# Altium footprint library Resistors.PcbLib: 79 footprints (part 5 of 5)
Each footprint in its own frame and in the unit in brackets; x right, y up, seen from the top. Pads: shape width x height; smd on the part's side, far side on the other; paste and mask are expansions set on the pad; w line width, h text height; cw(c..) or ccw(c..) is an arc to the next point about the centre after c.
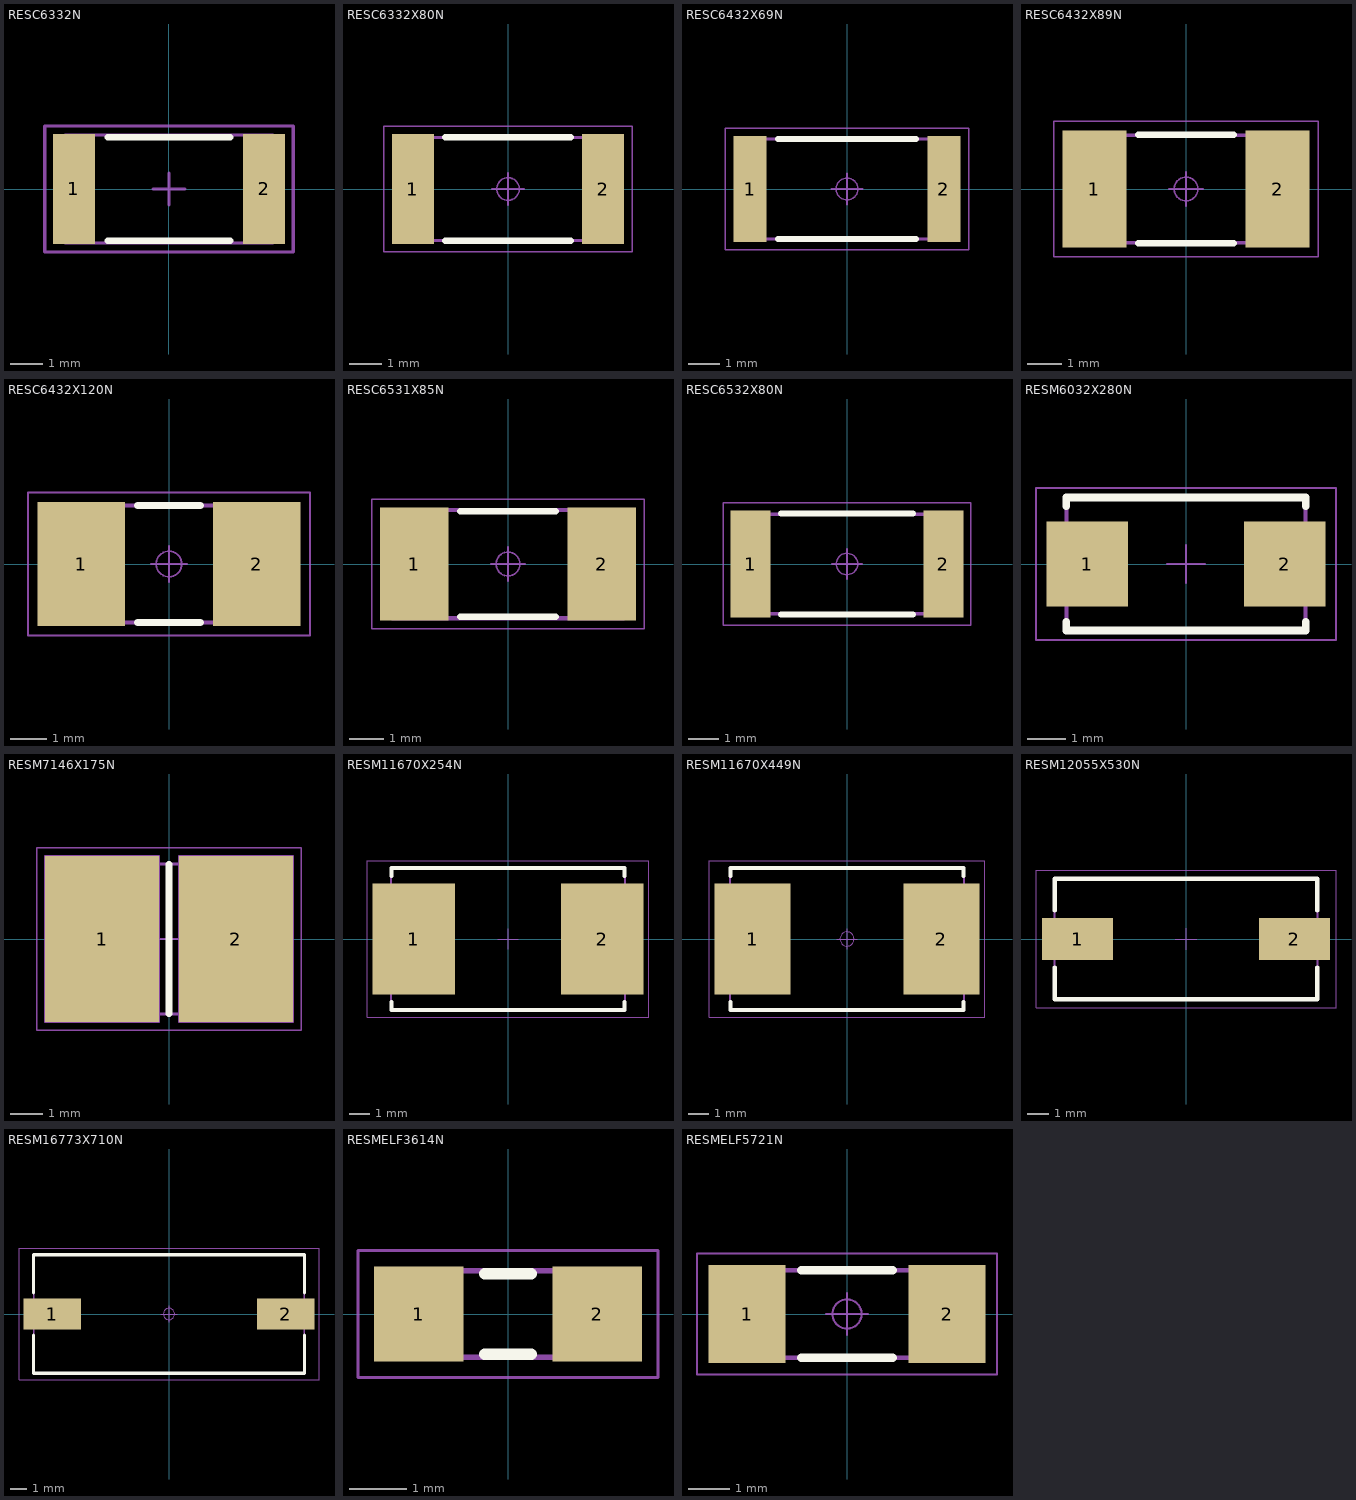
[diagram p4: the footprints below, top view; thin cyan lines are the x and y axes]

## RESC6332N [mm] "Chip Resistor, Body 6.3x3.2mm, IPC Medium Density"
height 0.71
pads (2):
  rect 1.3x3.4 smd: 1(-2.95,0) 2(2.95,0)
Top Overlay:
  lines w0.2: -1.9,-1.6 1.9,-1.6 ; -1.9,1.6 1.9,1.6
3D Top:
  lines w0.1: -3.225,-1.675 -3.225,1.675 3.225,1.675 3.225,-1.675 -3.225,-1.675
Courtyard Top:
  lines w0.1: -0.5,0 0.5,0 ; 0,-0.5 0,0.5 ; -3.85,-1.95 -3.85,1.95 3.85,1.95 3.85,-1.95 -3.85,-1.95
3D body: height 0.71, standoff 0, extent -3.225,-1.675 3.225,1.675

## RESC6332X80N [mm] "Chip Resistor, EIA 2512, Metric 6331, 2-Leads, Body 6.25mm L X 3.20mm W X 0.80mm H, IPC Medium Density"
height 0.8
pads (2):
  rect 1.3x3.4 smd: 1(-2.95,0) 2(2.95,0)
Top Overlay:
  lines w0.2: -1.95,-1.6 1.95,-1.6 ; -1.95,1.6 1.95,1.6
3D Bottom:
  lines w0.1: -3.125,-1.6 -3.125,1.6 3.125,1.6 3.125,-1.6 -3.125,-1.6
Courtyard Top:
  circle w0.05: c0,0 r0.35
  lines w0.05: -0.5,0 0.5,0 ; 0,-0.5 0,0.5 ; -3.85,-1.95 -3.85,1.95 3.85,1.95 3.85,-1.95 -3.85,-1.95
3D body "RESC6332X80N.stp": height 0.8, standoff 0, extent -3.125,-1.6 3.125,1.6

## RESC6432X69N [mm] "EIA 2512, Metric 6432, 2-Leads, Resistor, Chip; 6.35mm L X 3.20mm W X 0.69mm H, IPC Medium Density"
height 0.69
pads (2):
  rect 1.05x3.4 smd: 1(-3.1,0) 2(3.1,0)
Top Overlay:
  lines w0.2: -2.2,-1.6 2.2,-1.6 ; -2.2,1.6 2.2,1.6
3D Bottom:
  lines w0.1: -3.175,-1.6 -3.175,1.6 3.175,1.6 3.175,-1.6 -3.175,-1.6
Courtyard Top:
  circle w0.05: c0,0 r0.35
  lines w0.05: -0.5,0 0.5,0 ; 0,-0.5 0,0.5 ; -3.9,-1.95 -3.9,1.95 3.9,1.95 3.9,-1.95 -3.9,-1.95
3D body "RESC6432X69N.stp": height 0.7, standoff 0, extent -3.25,-1.675 3.25,1.675

## RESC6432X89N [mm] "Resistor, Chip; 6.35mm L X 3.18mm W X 0.889mm H, IPC Medium Density"
height 0.89
pads (2):
  rect 1.9x3.45 smd: 1(-2.7,0) 2(2.7,0)
Top Overlay:
  lines w0.2: -1.4,-1.6 1.4,-1.6 ; -1.4,1.6 1.4,1.6
3D Bottom:
  lines w0.1: -3.175,-1.59 -3.175,1.59 3.175,1.59 3.175,-1.59 -3.175,-1.59
Courtyard Top:
  circle w0.05: c0,0 r0.35
  lines w0.05: -0.5,0 0.5,0 ; 0,-0.5 0,0.5 ; -3.9,-2 -3.9,2 3.9,2 3.9,-2 -3.9,-2
3D body "RESC6432X89N.stp": height 0.89, standoff 0, extent -3.3,-1.715 3.3,1.715

## RESC6432X120N [mm] "EIA 2512, Metric 6432, 2-Leads, Resistor, Chip; 6.35mm L X 3.20mm W X 1.20mm H, IPC Medium Density"
height 1.2
pads (2):
  rect 2.4x3.4 smd: 1(-2.4,0) 2(2.4,0)
Top Overlay:
  lines w0.2: -0.85,-1.6 0.85,-1.6 ; -0.85,1.6 0.85,1.6
3D Bottom:
  lines w0.1: -3.175,-1.6 3.175,-1.6 3.175,1.6 -3.175,1.6 -3.175,-1.6
Courtyard Top:
  circle w0.05: c0,0 r0.35
  lines w0.05: -0.5,0 0.5,0 ; 0,-0.5 0,0.5 ; -3.85,-1.95 3.85,-1.95 3.85,1.95 -3.85,1.95 -3.85,-1.95
3D body "RESC6432X120N.stp": height 1.2, standoff 0, extent -3.175,-1.6 3.175,1.6

## RESC6531X85N [mm] "Resistor, Chip; 6.5mm L X 3.15mm W X 0.85mm H, IPC Medium Density"
height 0.85
pads (2):
  rect 2x3.3 smd: 1(-2.75,0) 2(2.75,0)
Top Overlay:
  lines w0.2: -1.4,-1.55 1.4,-1.55 ; -1.4,1.55 1.4,1.55
Assembly Top:
  lines w0.001: -3.404,-1.638 3.404,-1.638 3.404,1.638 -3.404,1.638 -3.404,-1.638
3D Bottom:
  lines w0.1: -3.251,-1.575 3.251,-1.575 3.251,1.575 -3.251,1.575 -3.251,-1.575
Courtyard Top:
  circle w0.05: c0,0 r0.35
  lines w0.05: -0.5,0 0.5,0 ; 0,-0.5 0,0.5 ; -4,-1.9 4,-1.9 4,1.9 -4,1.9 -4,-1.9
3D body "RESC6531X85N.stp": height 0.85, standoff 0, extent -3.25,-1.575 3.25,1.575

## RESC6532X80N [mm] "Resistor, Chip; 6.5mm L X 3.25mm W X 0.80mm H, IPC Medium Density"
height 0.8
pads (2):
  rect 1.3x3.5 smd: 1(-3.15,0) 2(3.15,0)
Top Overlay:
  lines w0.2: -2.15,-1.65 2.15,-1.65 ; -2.15,1.65 2.15,1.65
3D Bottom:
  lines w0.1: -3.25,-1.625 -3.25,1.625 3.25,1.625 3.25,-1.625 -3.25,-1.625
Courtyard Top:
  circle w0.05: c0,0 r0.35
  lines w0.05: -0.5,0 0.5,0 ; 0,-0.5 0,0.5 ; -4.05,-2 -4.05,2 4.05,2 4.05,-2 -4.05,-2
3D body "RESC6532X80N.stp": height 0.8, standoff 0, extent -3.25,-1.625 3.25,1.625

## RESM6032X280N [mm] "Molded Chip Resistor, 2-Leads, Body 6x3.2mm, IPC Medium Density"
height 2.8
pads (2):
  rect 2.15x2.25 smd: 1(-2.6,0) 2(2.6,0)
Top Overlay:
  lines w0.2: -3.15,-1.525 -3.15,-1.75 3.15,-1.75 3.15,-1.525 ; -3.15,1.525 -3.15,1.75 3.15,1.75 3.15,1.525
3D Bottom:
  lines w0.1: -3.15,-1.75 3.15,-1.75 3.15,1.75 -3.15,1.75 -3.15,-1.75
Courtyard Top:
  lines w0.05: -0.5,0 0.5,0 ; 0,-0.5 0,0.5 ; -3.95,-2 3.95,-2 3.95,2 -3.95,2 -3.95,-2
3D body "RESM6032X280N.stp": height 2.8, standoff 0, extent -3.15,-1.75 3.15,1.75

## RESM7146X175N [mm] "Resistor, Molded Body; 7.1mm L X 4.6mm W X 1.75mm H, IPC Medium Density"
height 1.75
pads (2):
  rect 3.5x5.1 smd: 1(-2.055,0) 2(2.055,0)
Top Overlay:
  lines w0.2: 0,-2.3 0,2.3
Assembly Top:
  lines w0.05: -2.555,0 -2.055,0 ; -2.055,-0.5 -2.055,0 ; -2.055,0.5 -2.055,0 ; -1.555,0 -2.055,0 ; -0.5,0 0,0 ; 0,-0.5 0,0 ; 0,0.5 0,0 ; 0.5,0 0,0 ; 1.555,0 2.055,0 ; 2.055,-0.5 2.055,0 ; 2.055,0.5 2.055,0 ; 2.555,0 2.055,0 ; -3.805,-2.55 -3.805,2.55 -0.305,2.55 -0.305,-2.55 -3.805,-2.55 ; 0.305,-2.55 0.305,2.55 3.805,2.55 3.805,-2.55 0.305,-2.55
3D Bottom:
  lines w0.1: -0.37,-2.3 -0.37,2.3 ; 0.37,-2.3 0.37,2.3 ; -3.55,-2.3 -3.55,2.3 3.55,2.3 3.55,-2.3 -3.55,-2.3
Courtyard Top:
  lines w0.05: -4.055,-2.8 -4.055,2.8 4.055,2.8 4.055,-2.8 -4.055,-2.8
3D body "RESM7146X175N.stp": height 1.5, standoff 0, extent -3.55,-2.3 3.55,2.3

## RESM11670X254N [mm] "Resistor, Molded Body; 11.56mm L X 6.98mm W X 2.537mm H, IPC Medium Density"
height 2.54
pads (2):
  rect 4.05x5.5 smd: 1(-4.65,0) 2(4.65,0)
Top Overlay:
  lines w0.2: -5.75,-3.1 -5.75,-3.5 5.75,-3.5 5.75,-3.1 ; -5.75,3.1 -5.75,3.5 5.75,3.5 5.75,3.1
3D Bottom:
  lines w0.1: -5.78,-3.49 -5.78,3.49 5.78,3.49 5.78,-3.49 -5.78,-3.49
Courtyard Top:
  lines w0.05: -0.5,0 0.5,0 ; 0,-0.5 0,0.5 ; -6.95,-3.85 -6.95,3.85 6.95,3.85 6.95,-3.85 -6.95,-3.85
3D body "RESM11670X254N.stp": height 2.54, standoff 0, extent -6.186,-3.553 6.187,3.554

## RESM11670X449N [mm] "Resistor, Molded Body; 11.56mm L X 6.98mm W X 4.49mm H, IPC Medium Density"
height 4.49
pads (2):
  rect 3.75x5.5 smd: 1(-4.65,0) 2(4.65,0)
Top Overlay:
  lines w0.2: -5.75,-3.1 -5.75,-3.5 5.75,-3.5 5.75,-3.1 ; -5.75,3.1 -5.75,3.5 5.75,3.5 5.75,3.1
3D Bottom:
  lines w0.1: -5.78,-3.49 -5.78,3.49 5.78,3.49 5.78,-3.49 -5.78,-3.49
Courtyard Top:
  circle w0.05: c0,0 r0.35
  lines w0.05: -0.5,0 0.5,0 ; 0,-0.5 0,0.5 ; -6.8,-3.85 -6.8,3.85 6.8,3.85 6.8,-3.85 -6.8,-3.85
3D body "RESM11670X449N.stp": height 4.49, standoff 0, extent -6.186,-3.553 6.187,3.554

## RESM12055X530N [mm] "Resistor, Molded Body; 12mm L X 5.5mm W X 5.3mm H, IPC Medium Density"
height 5.3
pads (2):
  rect 3.25x1.9 smd: 1(-4.95,0) 2(4.95,0)
Top Overlay:
  lines w0.2: -6,-1.3 -6,-2.75 6,-2.75 6,-1.3 ; -6,1.3 -6,2.75 6,2.75 6,1.3
3D Bottom:
  lines w0.1: -6,-2.75 -6,2.75 6,2.75 6,-2.75 -6,-2.75
Courtyard Top:
  lines w0.05: -0.5,0 0.5,0 ; 0,-0.5 0,0.5 ; -6.85,-3.15 -6.85,3.15 6.85,3.15 6.85,-3.15 -6.85,-3.15
3D body "RESM12055X530N.stp": height 5, standoff 0, extent -6,-2.9 6,2.9

## RESM16773X710N [mm] "Resistor, Molded Body; 16.70mm L X 7.30mm W X 7.10mm H, IPC Medium Density"
height 7.1
pads (2):
  rect 3.55x1.9 smd: 1(-7.2,0) 2(7.2,0)
Top Overlay:
  lines w0.2: -8.35,-1.3 -8.35,-3.65 8.35,-3.65 8.35,-1.3 ; -8.35,1.3 -8.35,3.65 8.35,3.65 8.35,1.3
3D Bottom:
  lines w0.1: -8.35,-3.65 -8.35,3.65 8.35,3.65 8.35,-3.65 -8.35,-3.65
  text "1" at 0.45,-0.164 h0.75
Courtyard Top:
  circle w0.05: c0,0 r0.35
  lines w0.05: -0.5,0 0.5,0 ; 0,-0.5 0,0.5 ; -9.25,-4.05 -9.25,4.05 9.25,4.05 9.25,-4.05 -9.25,-4.05
3D body "RESM17073X710N.stp": height 7.1, standoff 0, extent -8.5,-3.8 8.5,3.8

## RESMELF3614N [mm] "MELF Resistor, 2-Leads, Body 3.6x1.4mm, IPC Medium Density"
height 1.5
pads (2):
  rect 1.55x1.65 smd: 1(-1.55,0) 2(1.55,0)
Top Overlay:
  lines w0.2: -0.4,-0.7 0.4,-0.7 ; -0.4,0.7 0.4,0.7
3D Bottom:
  lines w0.1: -1.9,-0.75 -1.9,0.75 1.9,0.75 1.9,-0.75 -1.9,-0.75
Courtyard Top:
  lines w0.05: -2.6,-1.1 -2.6,1.1 2.6,1.1 2.6,-1.1 -2.6,-1.1
3D body "RESMELF3614N.stp": height 1.5, standoff 0, extent -1.9,-0.75 1.9,0.75

## RESMELF5721N [mm] "MELF Resistor, 2-Leads, Body 5.7x2.1mm, IPC Medium Density"
height 2.2
pads (2):
  rect 1.85x2.35 smd: 1(-2.4,0) 2(2.4,0)
Top Overlay:
  lines w0.2: -1.1,-1.05 1.1,-1.05 ; -1.1,1.05 1.1,1.05
3D Bottom:
  lines w0.1: -2.85,-1.05 -2.85,1.05 2.85,1.05 2.85,-1.05 -2.85,-1.05
Courtyard Top:
  circle w0.05: c0,0 r0.35
  lines w0.05: -0.5,0 0.5,0 ; 0,-0.5 0,0.5 ; -3.6,-1.45 -3.6,1.45 3.6,1.45 3.6,-1.45 -3.6,-1.45
3D body "RESMELF5822N.stp": height 2.3, standoff 0.1, extent -2.9,-1.1 2.9,1.1